# Altium integrated library SM02B-SRSS-TB_LF__SN_.IntLib: 1 symbol
Pins are listed as number, name and electrical type; pins without a type are passive.

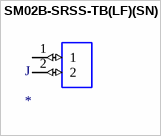
[diagram p0: symbol SM02B-SRSS-TB(LF)(SN)]

## SM02B-SRSS-TB(LF)(SN)
designator J
Connector Header Surface Mount, Right Angle 2 position 0.039 _1.00mm_; MP: SM02B-SRSS-TB_LF__SN_; MF: JST Sales; SnapEDA_Link: https://www.snapeda.com/parts/SM02B-SRSS-TB%28LF%29%28SN%29/JST%20Sales%20America%20Inc./view-part/447499/?ref=snap; Price: None; Value: *; Availability: Unavailable; Package: None
footprint SM02B-SRSS-TB(LF)(SN)
pins: 1 (io), 2 (io)